# Altium schematic symbol library SC0915.SchLib: 1 symbol
Pins are listed as number, name and electrical type; pins without a type are passive.

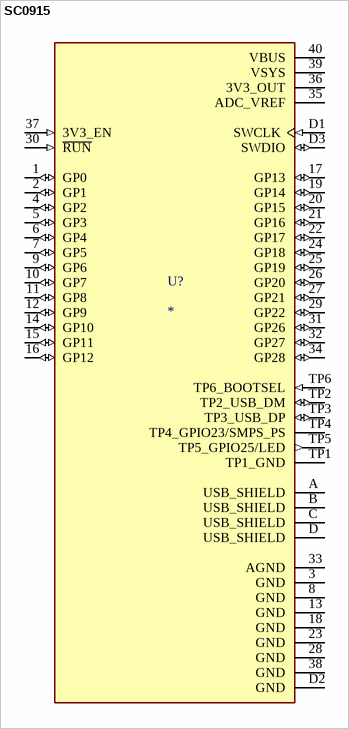
[diagram p0: symbol SC0915]

## SC0915
designator U?
MF: {'manufacturer': u'Raspberry Pi'}; MP: SC0915; Package: None; Price: None; Value: *; Availability: Unavailable
footprint MODULE_SC0915
pins: 1 GP0 (io), 2 GP1 (io), 3 GND (power), 4 GP2 (io), 5 GP3 (io), 6 GP4 (io), 7 GP5 (io), 8 GND (power), 9 GP6 (io), 10 GP7 (io), 11 GP8 (io), 12 GP9 (io), 13 GND (power), 14 GP10 (io), 15 GP11 (io), 16 GP12 (io), 17 GP13 (io), 18 GND (power), 19 GP14 (io), 20 GP15 (io), 21 GP16 (io), 22 GP17 (io), 23 GND (power), 24 GP18 (io), 25 GP19 (io), 26 GP20 (io), 27 GP21 (io), 28 GND (power), 29 GP22 (io), 30 ~{RUN} (in), 31 GP26 (io), 32 GP27 (io), 33 AGND (power), 34 GP28 (io), 35 ADC_VREF (power), 36 3V3_OUT (power), 37 3V3_EN (in), 38 GND (power), 39 VSYS (power), 40 VBUS (power), A USB_SHIELD (power), B USB_SHIELD (power), C USB_SHIELD (power), D USB_SHIELD (power), D1 SWCLK (in), D2 GND (power), D3 SWDIO (io), TP1 TP1_GND (power), TP2 TP2_USB_DM (io), TP3 TP3_USB_DP (io), TP4 TP4_GPIO23/SMPS_PS, TP5 TP5_GPIO25/LED (out), TP6 TP6_BOOTSEL (in)